# EAGLE library part XR22800IL (library pager)
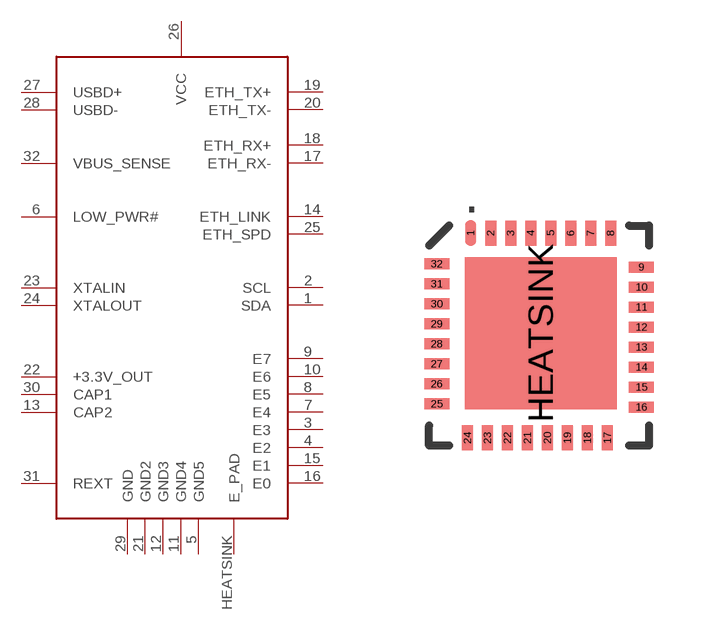
[diagram p3: symbol with the pads of QFN32; footprint QFN32]

Designator prefix U

## XR22800IL  [QFN32]
1  SDA
2  SCL
3  E3
4  E2
5  GND5
6  LOW_PWR#
7  E4
8  E5
9  E7
10  E6
11  GND4
12  GND3
13  CAP2
14  ETH_LINK
15  E1
16  E0
17  ETH_RX-
18  ETH_RX+
19  ETH_TX+
20  ETH_TX-
21  GND2
22  +3.3V_OUT
23  XTALIN
24  XTALOUT
25  ETH_SPD
26  VCC
27  USBD+
28  USBD-
29  GND
30  CAP1
31  REXT
32  VBUS_SENSE
HEATSINK  E_PAD

## Footprint QFN32 (pad centres in mm)
smd 0.275 x 0.625: 1 -1.71,2.56; 2 -1.21,2.56; 3 -0.71,2.56; 4 -0.21,2.56; 5 0.29,2.56; 6 0.79,2.56; 7 1.29,2.56; 8 1.79,2.56; 17 1.71,-2.56; 18 1.21,-2.56; 19 0.71,-2.56; 20 0.21,-2.56; 21 -0.29,-2.56; 22 -0.79,-2.56; 23 -1.29,-2.56; 24 -1.79,-2.56
smd 0.625 x 0.275: 9 2.56,1.71; 10 2.56,1.21; 11 2.56,0.71; 12 2.56,0.21; 13 2.56,-0.29; 14 2.56,-0.79; 15 2.56,-1.29; 16 2.56,-1.79; 25 -2.56,-1.71; 26 -2.56,-1.21; 27 -2.56,-0.71; 28 -2.56,-0.21; 29 -2.56,0.29; 30 -2.56,0.79; 31 -2.56,1.29; 32 -2.56,1.79
smd 3.8 x 3.8: HEATSINK 0.04,0.06